# Altium schematic symbol library M12B-05PFFR-EE0001.SchLib: 1 symbol
Pins are listed as number, name and electrical type; pins without a type are passive.

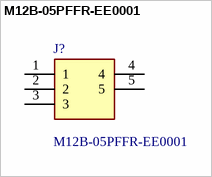
[diagram p0: symbol M12B-05PFFR-EE0001]

## M12B-05PFFR-EE0001
designator J?
Circular Metric Connectors M12 B code 90 DIP, Plastic, F conn F pin, 5P; Manufacturer_Name: Amphenol; Geometry.Height: 13.55mm; Manufacturer_Part_Number: M12B-05PFFR-EE0001; Mouser Part Number: 523-M12B05PFFREE0001; Mouser Price/Stock: https://www.mouser.co.uk/ProductDetail/Amphenol-LTW/M12B-05PFFR-EE0001?qs=t7xnP681wgUrjyreyDbuag%3D%3D; Arrow Part Number: *; Arrow Price/Stock: *; Datasheet Link: https://br.mouser.com/datasheet/2/18/1/Amphenol_4_22_2022_M12B_XXPFFR_EE0001_A_-2941309.pdf
footprint M12B05PFFREE0001
pins: 1, 2, 3, 4, 5